# Altium schematic symbol library Switche.SchLib: 2 symbols
Pins are listed as number, name and electrical type; pins without a type are passive.

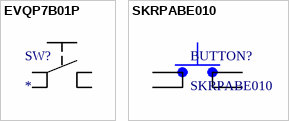
[diagram p0: symbols EVQP7B01P to SKRPABE010]

## EVQP7B01P
designator SW?
Switch Tactile N.O. SPST Rectangular Button J-Bend 0.05A 12VDC 2.2N SMD T/R
footprint EVQP7B01P (Switch Tactile N.O. SPST Rectangular Button J-Bend 0.05A 12VDC 2.2N SMD T/R)
pins: 1 P, 1' P1, 2 S, 2' S1

## SKRPABE010
designator BUTTON?
Switch Tactile N.O. SPST Button J-Bend 0.05A 16VDC 1.57N SMD Automotive T/R
footprint SKRPABE010
pins: 1, 2 1, 3 2, 4 2